# EAGLE library part EP3C25F256 (library altera)
EP3C25F256 edit this description Auto generated by make-symbol-device-package-bsdl.ulp Rev. 44 Source: EP3C25F256.txt
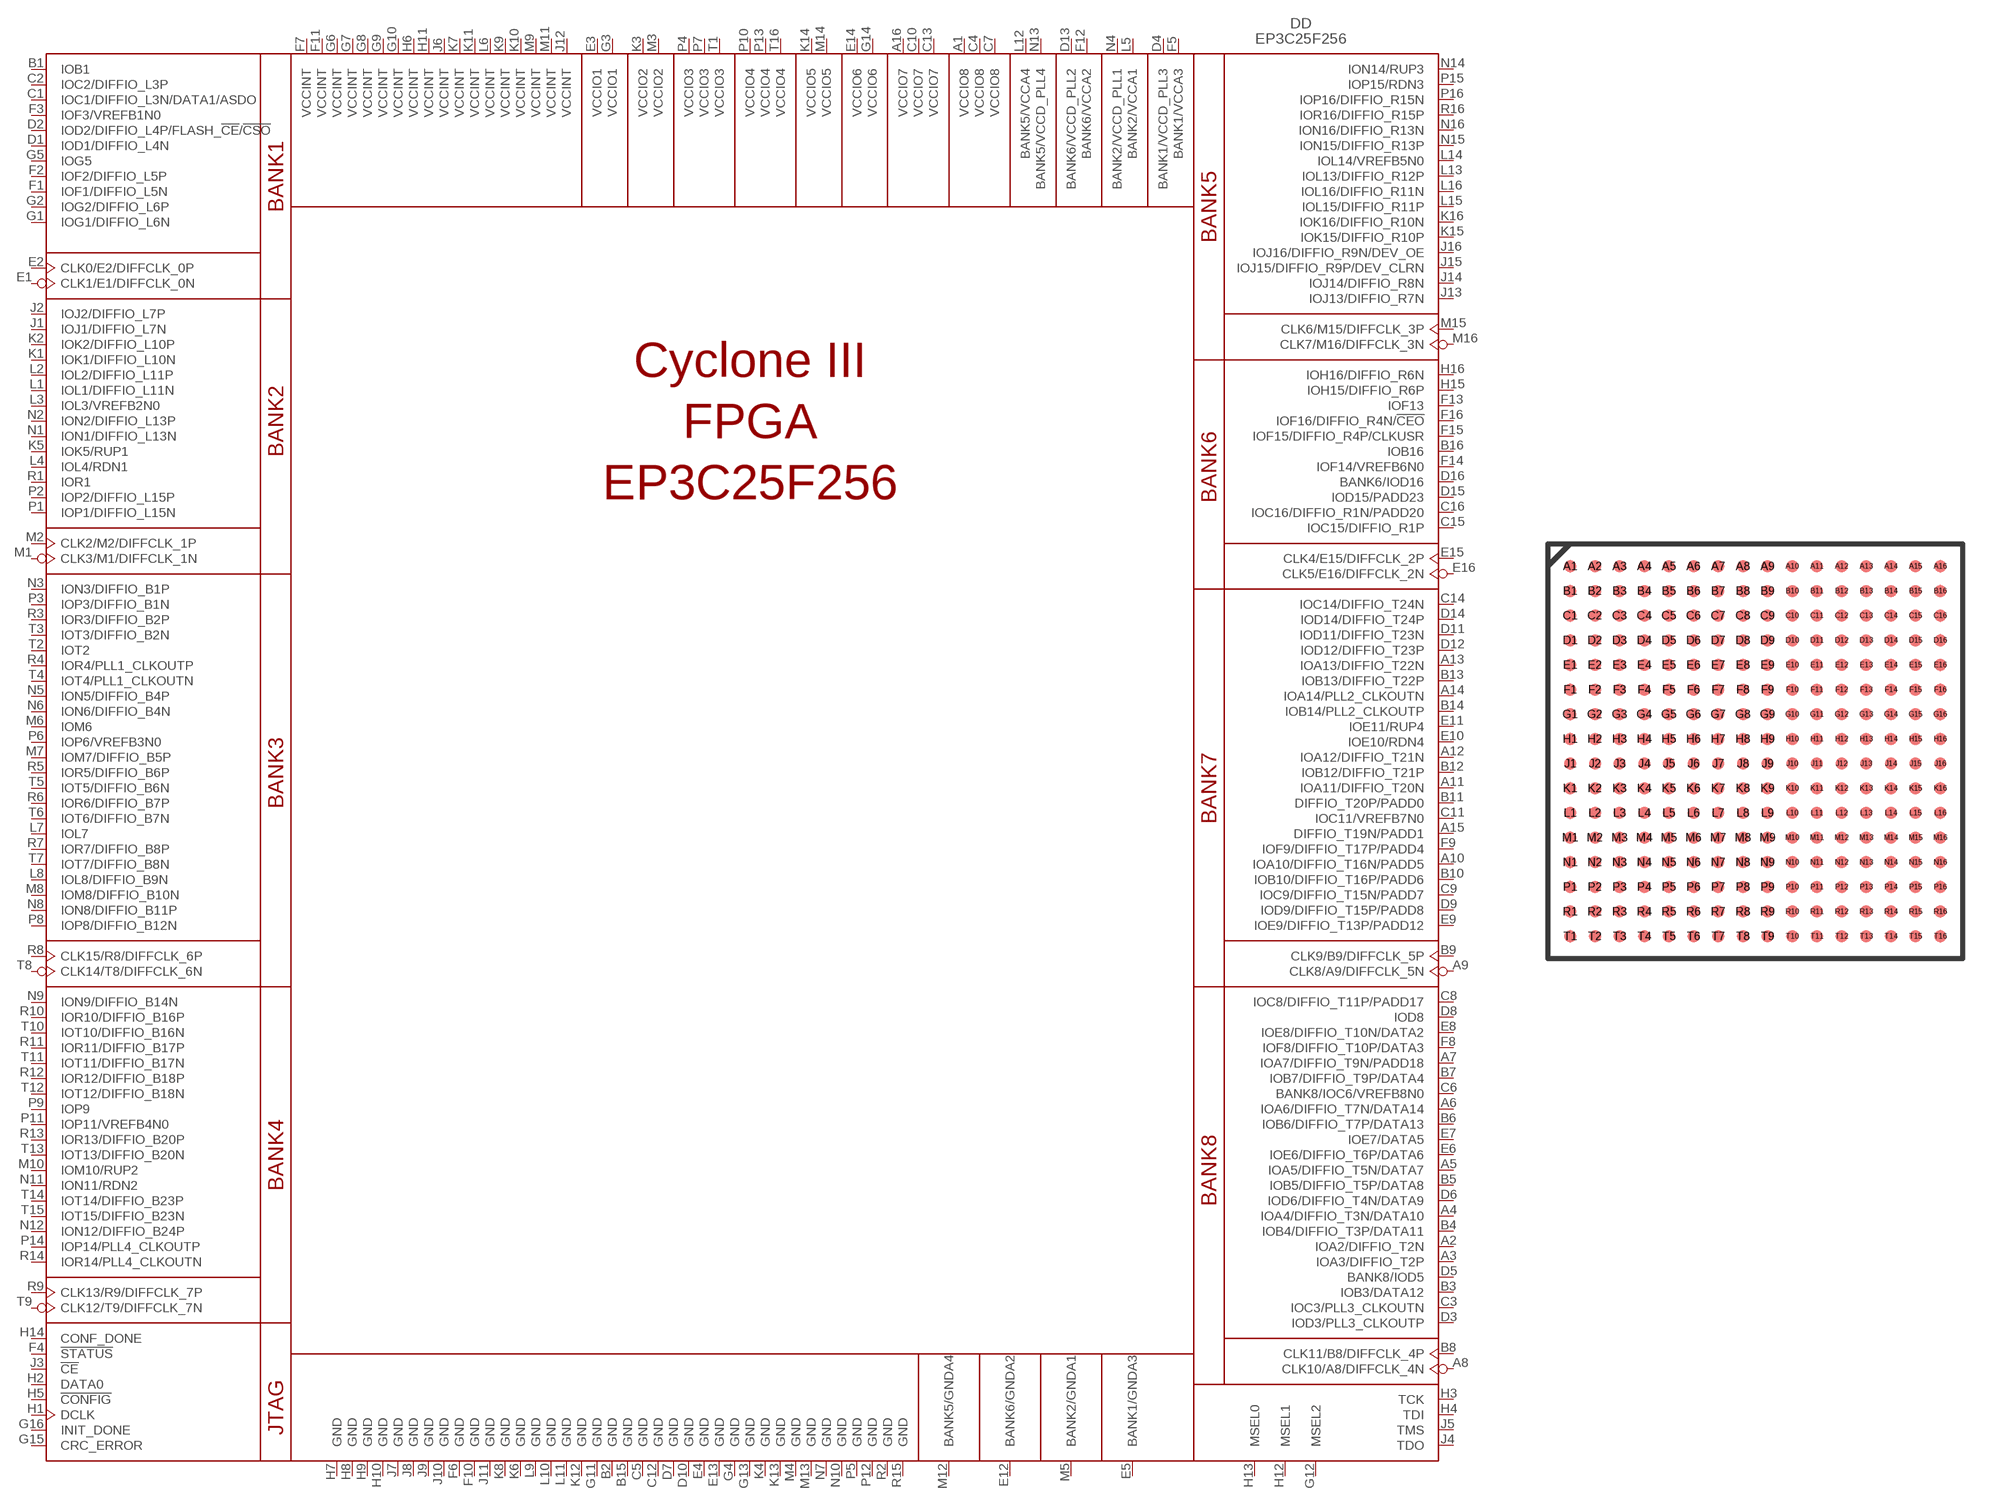
[diagram p2: symbol with the pads of FBGA256; footprint FBGA256]

Designator prefix DD

## EP3C25F256I7  [FBGA256]
A1  VCCIO8  pwr
A2  IOA2/DIFFIO_T2N
A3  IOA3/DIFFIO_T2P
A4  IOA4/DIFFIO_T3N/DATA10
A5  IOA5/DIFFIO_T5N/DATA7
A6  IOA6/DIFFIO_T7N/DATA14
A7  IOA7/DIFFIO_T9N/PADD18
A8  CLK10/A8/DIFFCLK_4N  in
A9  CLK8/A9/DIFFCLK_5N  in
A10  IOA10/DIFFIO_T16N/PADD5
A11  IOA11/DIFFIO_T20N
A12  IOA12/DIFFIO_T21N
A13  IOA13/DIFFIO_T22N
A14  IOA14/PLL2_CLKOUTN
A15  DIFFIO_T19N/PADD1
A16  VCCIO7  pwr
B1  IOB1
B2  GND  pwr
B3  IOB3/DATA12
B4  IOB4/DIFFIO_T3P/DATA11
B5  IOB5/DIFFIO_T5P/DATA8
B6  IOB6/DIFFIO_T7P/DATA13
B7  IOB7/DIFFIO_T9P/DATA4
B8  CLK11/B8/DIFFCLK_4P  in
B9  CLK9/B9/DIFFCLK_5P  in
B10  IOB10/DIFFIO_T16P/PADD6
B11  DIFFIO_T20P/PADD0
B12  IOB12/DIFFIO_T21P
B13  IOB13/DIFFIO_T22P
B14  IOB14/PLL2_CLKOUTP
B15  GND  pwr
B16  IOB16
C1  IOC1/DIFFIO_L3N/DATA1/ASDO
C2  IOC2/DIFFIO_L3P
C3  IOC3/PLL3_CLKOUTN
C4  VCCIO8  pwr
C5  GND  pwr
C6  BANK8/IOC6/VREFB8N0
C7  VCCIO8  pwr
C8  IOC8/DIFFIO_T11P/PADD17
C9  IOC9/DIFFIO_T15N/PADD7
C10  VCCIO7  pwr
C11  IOC11/VREFB7N0
C12  GND  pwr
C13  VCCIO7  pwr
C14  IOC14/DIFFIO_T24N
C15  IOC15/DIFFIO_R1P
C16  IOC16/DIFFIO_R1N/PADD20
D1  IOD1/DIFFIO_L4N
D2  IOD2/DIFFIO_L4P/FLASH_!CE!/!CSO
D3  IOD3/PLL3_CLKOUTP
D4  BANK1/VCCD_PLL3  pwr
D5  BANK8/IOD5
D6  IOD6/DIFFIO_T4N/DATA9
D7  GND  pwr
D8  IOD8
D9  IOD9/DIFFIO_T15P/PADD8
D10  GND  pwr
D11  IOD11/DIFFIO_T23N
D12  IOD12/DIFFIO_T23P
D13  BANK6/VCCD_PLL2  pwr
D14  IOD14/DIFFIO_T24P
D15  IOD15/PADD23
D16  BANK6/IOD16
E1  CLK1/E1/DIFFCLK_0N  in
E2  CLK0/E2/DIFFCLK_0P  in
E3  VCCIO1  pwr
E4  GND  pwr
E5  BANK1/GNDA3  pwr
E6  IOE6/DIFFIO_T6P/DATA6
E7  IOE7/DATA5
E8  IOE8/DIFFIO_T10N/DATA2
E9  IOE9/DIFFIO_T13P/PADD12
E10  IOE10/RDN4
E11  IOE11/RUP4
E12  BANK6/GNDA2  pwr
E13  GND  pwr
E14  VCCIO6  pwr
E15  CLK4/E15/DIFFCLK_2P  in
E16  CLK5/E16/DIFFCLK_2N  in
F1  IOF1/DIFFIO_L5N
F2  IOF2/DIFFIO_L5P
F3  IOF3/VREFB1N0
F4  !STATUS  in
F5  BANK1/VCCA3  pwr
F6  GND  pwr
F7  VCCINT  pwr
F8  IOF8/DIFFIO_T10P/DATA3
F9  IOF9/DIFFIO_T17P/PADD4
F10  GND  pwr
F11  VCCINT  pwr
F12  BANK6/VCCA2  pwr
F13  IOF13
F14  IOF14/VREFB6N0
F15  IOF15/DIFFIO_R4P/CLKUSR
F16  IOF16/DIFFIO_R4N/!CEO
G1  IOG1/DIFFIO_L6N
G2  IOG2/DIFFIO_L6P
G3  VCCIO1  pwr
G4  GND  pwr
G5  IOG5
G6  VCCINT  pwr
G7  VCCINT  pwr
G8  VCCINT  pwr
G9  VCCINT  pwr
G10  VCCINT  pwr
G11  GND  pwr
G12  MSEL2  in
G13  GND  pwr
G14  VCCIO6  pwr
G15  CRC_ERROR
G16  INIT_DONE
H1  DCLK  in
H2  DATA0
H3  TCK  in
H4  TDI  in
H5  !CONFIG  in
H6  VCCINT  pwr
H7  GND  pwr
H8  GND  pwr
H9  GND  pwr
H10  GND  pwr
H11  VCCINT  pwr
H12  MSEL1  in
H13  MSEL0  in
H14  CONF_DONE  in
H15  IOH15/DIFFIO_R6P
H16  IOH16/DIFFIO_R6N
J1  IOJ1/DIFFIO_L7N
J2  IOJ2/DIFFIO_L7P
J3  !CE  in
J4  TDO  out
J5  TMS  in
J6  VCCINT  pwr
J7  GND  pwr
J8  GND  pwr
J9  GND  pwr
J10  GND  pwr
J11  GND  pwr
J12  VCCINT  pwr
J13  IOJ13/DIFFIO_R7N
J14  IOJ14/DIFFIO_R8N
J15  IOJ15/DIFFIO_R9P/DEV_CLRN
J16  IOJ16/DIFFIO_R9N/DEV_OE
K1  IOK1/DIFFIO_L10N
K2  IOK2/DIFFIO_L10P
K3  VCCIO2  pwr
K4  GND  pwr
K5  IOK5/RUP1
K6  GND  pwr
K7  VCCINT  pwr
K8  GND  pwr
K9  VCCINT  pwr
K10  VCCINT  pwr
K11  VCCINT  pwr
K12  GND  pwr
K13  GND  pwr
K14  VCCIO5  pwr
K15  IOK15/DIFFIO_R10P
K16  IOK16/DIFFIO_R10N
L1  IOL1/DIFFIO_L11N
L2  IOL2/DIFFIO_L11P
L3  IOL3/VREFB2N0
L4  IOL4/RDN1
L5  BANK2/VCCA1  pwr
L6  VCCINT  pwr
L7  IOL7
L8  IOL8/DIFFIO_B9N
L9  GND  pwr
L10  GND  pwr
L11  GND  pwr
L12  BANK5/VCCA4  pwr
L13  IOL13/DIFFIO_R12P
L14  IOL14/VREFB5N0
L15  IOL15/DIFFIO_R11P
L16  IOL16/DIFFIO_R11N
M1  CLK3/M1/DIFFCLK_1N  in
M2  CLK2/M2/DIFFCLK_1P  in
M3  VCCIO2  pwr
M4  GND  pwr
M5  BANK2/GNDA1  pwr
M6  IOM6
M7  IOM7/DIFFIO_B5P
M8  IOM8/DIFFIO_B10N
M9  VCCINT  pwr
M10  IOM10/RUP2
M11  VCCINT  pwr
M12  BANK5/GNDA4  pwr
M13  GND  pwr
M14  VCCIO5  pwr
M15  CLK6/M15/DIFFCLK_3P  in
M16  CLK7/M16/DIFFCLK_3N  in
N1  ION1/DIFFIO_L13N
N2  ION2/DIFFIO_L13P
N3  ION3/DIFFIO_B1P
N4  BANK2/VCCD_PLL1  pwr
N5  ION5/DIFFIO_B4P
N6  ION6/DIFFIO_B4N
N7  GND  pwr
N8  ION8/DIFFIO_B11P
N9  ION9/DIFFIO_B14N
N10  GND  pwr
N11  ION11/RDN2
N12  ION12/DIFFIO_B24P
N13  BANK5/VCCD_PLL4  pwr
N14  ION14/RUP3
N15  ION15/DIFFIO_R13P
N16  ION16/DIFFIO_R13N
P1  IOP1/DIFFIO_L15N
P2  IOP2/DIFFIO_L15P
P3  IOP3/DIFFIO_B1N
P4  VCCIO3  pwr
P5  GND  pwr
P6  IOP6/VREFB3N0
P7  VCCIO3  pwr
P8  IOP8/DIFFIO_B12N
P9  IOP9
P10  VCCIO4  pwr
P11  IOP11/VREFB4N0
P12  GND  pwr
P13  VCCIO4  pwr
P14  IOP14/PLL4_CLKOUTP
P15  IOP15/RDN3
P16  IOP16/DIFFIO_R15N
R1  IOR1
R2  GND  pwr
R3  IOR3/DIFFIO_B2P
R4  IOR4/PLL1_CLKOUTP
R5  IOR5/DIFFIO_B6P
R6  IOR6/DIFFIO_B7P
R7  IOR7/DIFFIO_B8P
R8  CLK15/R8/DIFFCLK_6P  in
R9  CLK13/R9/DIFFCLK_7P  in
R10  IOR10/DIFFIO_B16P
R11  IOR11/DIFFIO_B17P
R12  IOR12/DIFFIO_B18P
R13  IOR13/DIFFIO_B20P
R14  IOR14/PLL4_CLKOUTN
R15  GND  pwr
R16  IOR16/DIFFIO_R15P
T1  VCCIO3  pwr
T2  IOT2
T3  IOT3/DIFFIO_B2N
T4  IOT4/PLL1_CLKOUTN
T5  IOT5/DIFFIO_B6N
T6  IOT6/DIFFIO_B7N
T7  IOT7/DIFFIO_B8N
T8  CLK14/T8/DIFFCLK_6N  in
T9  CLK12/T9/DIFFCLK_7N  in
T10  IOT10/DIFFIO_B16N
T11  IOT11/DIFFIO_B17N
T12  IOT12/DIFFIO_B18N
T13  IOT13/DIFFIO_B20N
T14  IOT14/DIFFIO_B23P
T15  IOT15/DIFFIO_B23N
T16  VCCIO4  pwr

## Footprint FBGA256 (pad centres in mm)
EP3C25F256.BSD edit this description Auto generated by make-symbol-device-package-bsdl.ulp Rev. 44 Source: EP3C25F256.BSD.txt
smd 0.5 x 0.5: A1 -7.5,7.5; A2 -6.5,7.5; A3 -5.5,7.5; A4 -4.5,7.5; A5 -3.5,7.5; A6 -2.5,7.5; A7 -1.5,7.5; A8 -0.5,7.5; A9 0.5,7.5; A10 1.5,7.5; A11 2.5,7.5; A12 3.5,7.5; A13 4.5,7.5; A14 5.5,7.5; A15 6.5,7.5; A16 7.5,7.5; B1 -7.5,6.5; B2 -6.5,6.5; B3 -5.5,6.5; B4 -4.5,6.5; B5 -3.5,6.5; B6 -2.5,6.5; B7 -1.5,6.5; B8 -0.5,6.5; B9 0.5,6.5; B10 1.5,6.5; B11 2.5,6.5; B12 3.5,6.5; B13 4.5,6.5; B14 5.5,6.5; B15 6.5,6.5; B16 7.5,6.5; C1 -7.5,5.5; C2 -6.5,5.5; C3 -5.5,5.5; C4 -4.5,5.5; C5 -3.5,5.5; C6 -2.5,5.5; C7 -1.5,5.5; C8 -0.5,5.5; C9 0.5,5.5; C10 1.5,5.5; C11 2.5,5.5; C12 3.5,5.5; C13 4.5,5.5; C14 5.5,5.5; C15 6.5,5.5; C16 7.5,5.5; D1 -7.5,4.5; D2 -6.5,4.5; D3 -5.5,4.5; D4 -4.5,4.5; D5 -3.5,4.5; D6 -2.5,4.5; D7 -1.5,4.5; D8 -0.5,4.5; D9 0.5,4.5; D10 1.5,4.5; D11 2.5,4.5; D12 3.5,4.5; D13 4.5,4.5; D14 5.5,4.5; D15 6.5,4.5; D16 7.5,4.5; E1 -7.5,3.5; E2 -6.5,3.5; E3 -5.5,3.5; E4 -4.5,3.5; E5 -3.5,3.5; E6 -2.5,3.5; E7 -1.5,3.5; E8 -0.5,3.5; E9 0.5,3.5; E10 1.5,3.5; E11 2.5,3.5; E12 3.5,3.5; E13 4.5,3.5; E14 5.5,3.5; E15 6.5,3.5; E16 7.5,3.5; F1 -7.5,2.5; F2 -6.5,2.5; F3 -5.5,2.5; F4 -4.5,2.5; F5 -3.5,2.5; F6 -2.5,2.5; F7 -1.5,2.5; F8 -0.5,2.5; F9 0.5,2.5; F10 1.5,2.5; F11 2.5,2.5; F12 3.5,2.5; F13 4.5,2.5; F14 5.5,2.5; F15 6.5,2.5; F16 7.5,2.5; G1 -7.5,1.5; G2 -6.5,1.5; G3 -5.5,1.5; G4 -4.5,1.5; G5 -3.5,1.5; G6 -2.5,1.5; G7 -1.5,1.5; G8 -0.5,1.5; G9 0.5,1.5; G10 1.5,1.5; G11 2.5,1.5; G12 3.5,1.5; G13 4.5,1.5; G14 5.5,1.5; G15 6.5,1.5; G16 7.5,1.5; H1 -7.5,0.5; H2 -6.5,0.5; H3 -5.5,0.5; H4 -4.5,0.5; H5 -3.5,0.5; H6 -2.5,0.5; H7 -1.5,0.5; H8 -0.5,0.5; H9 0.5,0.5; H10 1.5,0.5; H11 2.5,0.5; H12 3.5,0.5; H13 4.5,0.5; H14 5.5,0.5; H15 6.5,0.5; H16 7.5,0.5; J1 -7.5,-0.5; J2 -6.5,-0.5; J3 -5.5,-0.5; J4 -4.5,-0.5; J5 -3.5,-0.5; J6 -2.5,-0.5; J7 -1.5,-0.5; J8 -0.5,-0.5; J9 0.5,-0.5; J10 1.5,-0.5; J11 2.5,-0.5; J12 3.5,-0.5; J13 4.5,-0.5; J14 5.5,-0.5; J15 6.5,-0.5; J16 7.5,-0.5; K1 -7.5,-1.5; K2 -6.5,-1.5; K3 -5.5,-1.5; K4 -4.5,-1.5; K5 -3.5,-1.5; K6 -2.5,-1.5; K7 -1.5,-1.5; K8 -0.5,-1.5; K9 0.5,-1.5; K10 1.5,-1.5; K11 2.5,-1.5; K12 3.5,-1.5; K13 4.5,-1.5; K14 5.5,-1.5; K15 6.5,-1.5; K16 7.5,-1.5; L1 -7.5,-2.5; L2 -6.5,-2.5; L3 -5.5,-2.5; L4 -4.5,-2.5; L5 -3.5,-2.5; L6 -2.5,-2.5; L7 -1.5,-2.5; L8 -0.5,-2.5; L9 0.5,-2.5; L10 1.5,-2.5; L11 2.5,-2.5; L12 3.5,-2.5; L13 4.5,-2.5; L14 5.5,-2.5; L15 6.5,-2.5; L16 7.5,-2.5; M1 -7.5,-3.5; M2 -6.5,-3.5; M3 -5.5,-3.5; M4 -4.5,-3.5; M5 -3.5,-3.5; M6 -2.5,-3.5; M7 -1.5,-3.5; M8 -0.5,-3.5; M9 0.5,-3.5; M10 1.5,-3.5; M11 2.5,-3.5; M12 3.5,-3.5; M13 4.5,-3.5; M14 5.5,-3.5; M15 6.5,-3.5; M16 7.5,-3.5; N1 -7.5,-4.5; N2 -6.5,-4.5; N3 -5.5,-4.5; N4 -4.5,-4.5; N5 -3.5,-4.5; N6 -2.5,-4.5; N7 -1.5,-4.5; N8 -0.5,-4.5; N9 0.5,-4.5; N10 1.5,-4.5; N11 2.5,-4.5; N12 3.5,-4.5; N13 4.5,-4.5; N14 5.5,-4.5; N15 6.5,-4.5; N16 7.5,-4.5; P1 -7.5,-5.5; P2 -6.5,-5.5; P3 -5.5,-5.5; P4 -4.5,-5.5; P5 -3.5,-5.5; P6 -2.5,-5.5; P7 -1.5,-5.5; P8 -0.5,-5.5; P9 0.5,-5.5; P10 1.5,-5.5; P11 2.5,-5.5; P12 3.5,-5.5; P13 4.5,-5.5; P14 5.5,-5.5; P15 6.5,-5.5; P16 7.5,-5.5; R1 -7.5,-6.5; R2 -6.5,-6.5; R3 -5.5,-6.5; R4 -4.5,-6.5; R5 -3.5,-6.5; R6 -2.5,-6.5; R7 -1.5,-6.5; R8 -0.5,-6.5; R9 0.5,-6.5; R10 1.5,-6.5; R11 2.5,-6.5; R12 3.5,-6.5; R13 4.5,-6.5; R14 5.5,-6.5; R15 6.5,-6.5; R16 7.5,-6.5; T1 -7.5,-7.5; T2 -6.5,-7.5; T3 -5.5,-7.5; T4 -4.5,-7.5; T5 -3.5,-7.5; T6 -2.5,-7.5; T7 -1.5,-7.5; T8 -0.5,-7.5; T9 0.5,-7.5; T10 1.5,-7.5; T11 2.5,-7.5; T12 3.5,-7.5; T13 4.5,-7.5; T14 5.5,-7.5; T15 6.5,-7.5; T16 7.5,-7.5